# EAGLE library part RTC-DS1307 (library my_lib)
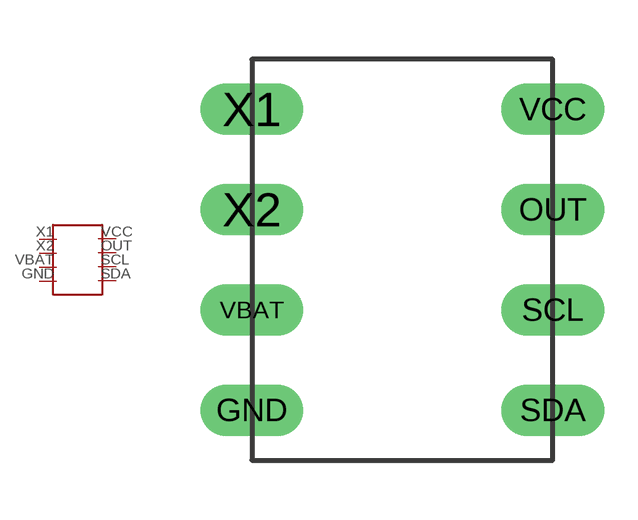
[diagram p0: symbol with the pads of RTC-DS1307; footprint RTC-DS1307]

Designator prefix A

## RTC-DS1307  [RTC-DS1307]
GND  4
OUT  6
SCL  7
SDA  8
VBAT  3
VCC  5
X1  1
X2  2

## Footprint RTC-DS1307 (pad centres in mm)
drill 0.8 long: GND -342.9,43.18; OUT -335.28,48.26; SCL -335.28,45.72; SDA -335.28,43.18; VBAT -342.9,45.72; VCC -335.28,50.8; X1 -342.9,50.8; X2 -342.9,48.26